# EAGLE library part JP10QE (library jumper2)
JUMPER
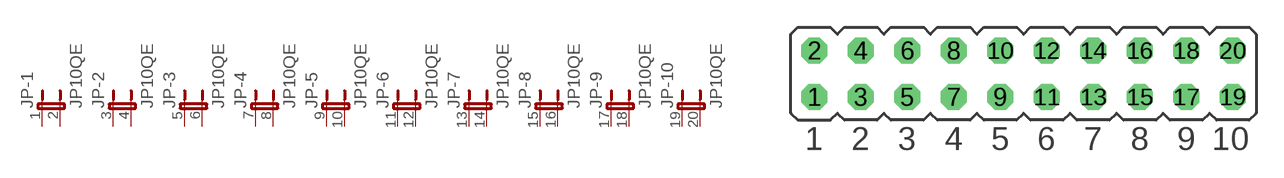
[diagram p7: symbol with the pads of JP10Q; footprint JP10Q]

Designator prefix JP; gates -1=JP2E -2=JP2E -3=JP2E -4=JP2E -5=JP2E -6=JP2E -7=JP2E -8=JP2E -9=JP2E -10=JP2E

## JP10QE  [JP10Q]
1  -1:1  pas
2  -1:2  pas
3  -2:1  pas
4  -2:2  pas
5  -3:1  pas
6  -3:2  pas
7  -4:1  pas
8  -4:2  pas
9  -5:1  pas
10  -5:2  pas
11  -6:1  pas
12  -6:2  pas
13  -7:1  pas
14  -7:2  pas
15  -8:1  pas
16  -8:2  pas
17  -9:1  pas
18  -9:2  pas
19  -10:1  pas
20  -10:2  pas

## Footprint JP10Q (pad centres in mm)
JUMPER
drill 0.914 octagon: 1 -11.43,-1.27; 2 -11.43,1.27; 3 -8.89,-1.27; 4 -8.89,1.27; 5 -6.35,-1.27; 6 -6.35,1.27; 7 -3.81,-1.27; 8 -3.81,1.27; 9 -1.27,-1.27; 10 -1.27,1.27; 11 1.27,-1.27; 12 1.27,1.27; 13 3.81,-1.27; 14 3.81,1.27; 15 6.35,-1.27; 16 6.35,1.27; 17 8.89,-1.27; 18 8.89,1.27; 19 11.43,-1.27; 20 11.43,1.27